# EAGLE library part SM08B-NSHSS-TB(LF)(SN) (library Headers)
CONN HEADER SMD R/A 8POS 1MM Manufacturer's datasheet <http://www.jst-mfg.com/product/pdf/eng/eNSH.pdf>
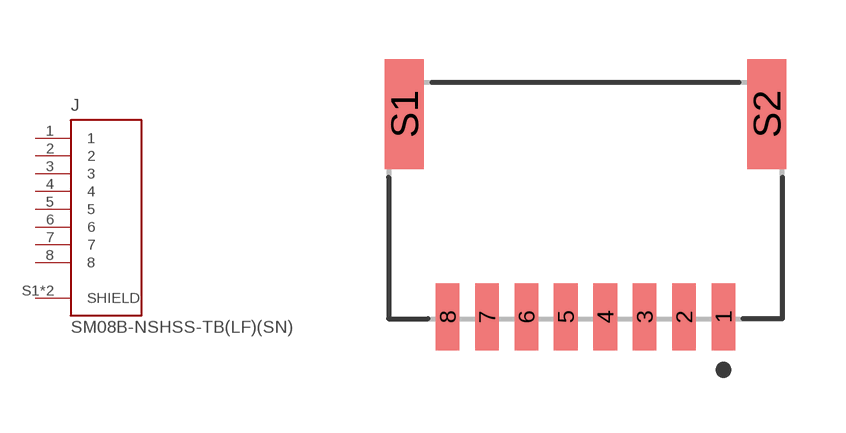
[diagram p29: symbol with the pads of SM08B-NSHSS-TB(LF)(SN); footprint SM08B-NSHSS-TB(LF)(SN)]

Designator prefix J

## SM08B-NSHSS-TB(LF)(SN) (CREATED_BY: PCBLayout.com; DIGIKEY_PN: 455-2770-2-ND; MANUFACTURER: JST Sales America Inc.; MPN: SM08B-NSHSS-TB (LF)(SN))  [SM08B-NSHSS-TB(LF)(SN)]
1  1  pas
2  2  pas
3  3  pas
4  4  pas
5  5  pas
6  6  pas
7  7  pas
8  8  pas
S1  SHIELD  pwr
S2  SHIELD  pwr

## Footprint SM08B-NSHSS-TB(LF)(SN) (pad centres in mm)
smd 0.6 x 1.7: 1 3.5,-2.575; 2 2.5,-2.575; 3 1.5,-2.575; 4 0.5,-2.575; 5 -0.5,-2.575; 6 -1.5,-2.575; 7 -2.5,-2.575; 8 -3.5,-2.575
smd 1 x 2.8: S1 -4.6,2.575; S2 4.6,2.575